# EAGLE library part MAX3077 (library MAX3077)
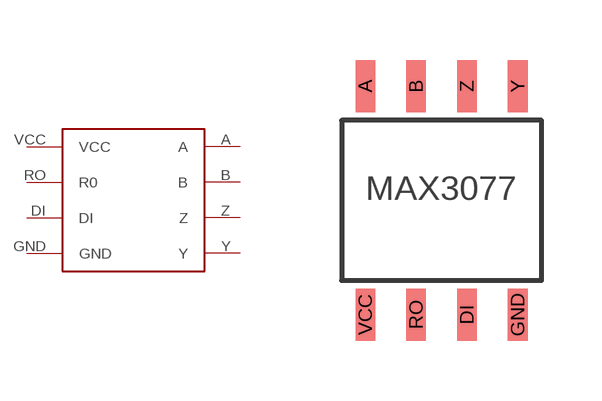
[diagram p0: symbol with the pads of MAX3070E; footprint MAX3070E]

Designator prefix -

## MAX3077  [MAX3070E]
A  A
B  B
DI  DI
GND  GND
RO  R0
VCC  VCC
Y  Y
Z  Z

## Footprint MAX3070E (pad centres in mm)
smd 0.49 x 1.3: A -1.905,2.857; B -0.635,2.857; DI 0.635,-2.857; GND 1.905,-2.857; RO -0.635,-2.857; VCC -1.905,-2.857; Y 1.905,2.857; Z 0.635,2.857